# EAGLE library part 2420-10? (library con-wieson-2420)
2.0mm 2420-10 - 10 pin Source: http://www.jm.pl/karty/2420-XXXT1X-C.pdf
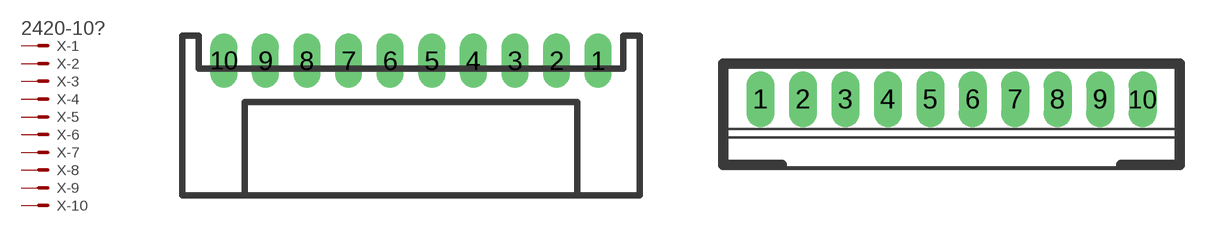
[diagram p7: symbol with the pads of 2420-10R; footprints 2420-10R, 2420-10S]

Designator prefix X; gates -1=MV -2=M -3=M -4=M -5=M -6=M -7=M -8=M -9=M -10=M

## 2420-10R  [2420-10R]
1  -1:>NAME$
2  -2:>NAME$
3  -3:>NAME$
4  -4:>NAME$
5  -5:>NAME$
6  -6:>NAME$
7  -7:>NAME$
8  -8:>NAME$
9  -9:>NAME$
10  -10:>NAME$

## 2420-10S  [2420-10S]
Pads as for 2420-10R

## Footprint 2420-10R (pad centres in mm)
2.0mm right angle 2420-10 - 10 pin Source: http://www.jm.pl/karty/2420-XXXT1X-C.pdf
drill 0.8 long: 1 9,0; 2 7,0; 3 5,0; 4 3,0; 5 1,0; 6 -1,0; 7 -3,0; 8 -5,0; 9 -7,0; 10 -9,0

## Footprint 2420-10S (pad centres in mm)
2.0mm straight 2420-10 - 10 pin Source: http://www.jm.pl/karty/2420-XXXT1X-C.pdf
drill 0.8 long: 1 -9,0; 2 -7,0; 3 -5,0; 4 -3,0; 5 -1,0; 6 1,0; 7 3,0; 8 5,0; 9 7,0; 10 9,0